# Altium footprint library PcbLib1.PcbLib: 4 footprints
Each footprint in its own frame and in the unit in brackets; x right, y up, seen from the top. Pads: shape width x height; smd on the part's side, far side on the other; paste and mask are expansions set on the pad; w line width, h text height; cw(c..) or ccw(c..) is an arc to the next point about the centre after c.
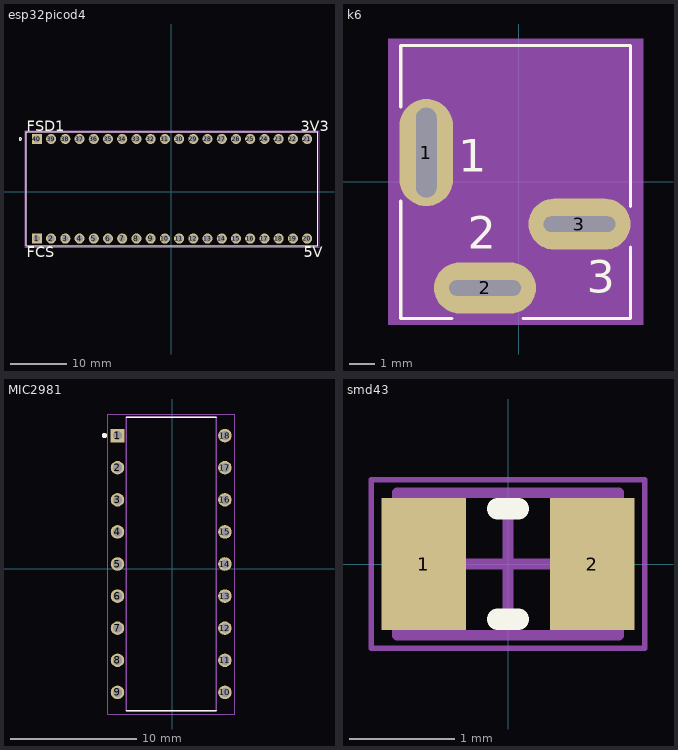
[diagram p0: the footprints below, top view; thin cyan lines are the x and y axes]

## esp32picod4 [mm]
pads (40):
  rect 1.8x1.8 hole 1.2: 1(-24.003,-8.382) 40(-24.003,9.398)
  round 1.8 hole 1.2: 2(-21.463,-8.382) 3(-18.923,-8.382) 4(-16.383,-8.382) 5(-13.843,-8.382) 6(-11.303,-8.382) 7(-8.763,-8.382) 8(-6.223,-8.382) 9(-3.683,-8.382) 10(-1.143,-8.382) 11(1.397,-8.382) 12(3.937,-8.382) 13(6.477,-8.382) 14(9.017,-8.382) 15(11.557,-8.382) 16(14.097,-8.382) 17(16.637,-8.382) 18(19.177,-8.382) 19(21.717,-8.382) 20(24.257,-8.382) 21(24.257,9.398) 22(21.717,9.398) 23(19.177,9.398) 24(16.637,9.398) 25(14.097,9.398) 26(11.557,9.398) 27(9.017,9.398) 28(6.477,9.398) 29(3.937,9.398) 30(1.397,9.398) 31(-1.143,9.398) 32(-3.683,9.398) 33(-6.223,9.398) 34(-8.763,9.398) 35(-11.303,9.398) 36(-13.843,9.398) 37(-16.383,9.398) 38(-18.923,9.398) 39(-21.463,9.398)
Top Overlay:
  circle w0.2: c-26.973,9.408 r0.224
  lines w0.127: -25.873,-9.642 26.127,-9.642 26.127,10.658 -25.873,10.658 -25.873,-9.642
  text "FCS" at -25.813,-11.695 h1.88
  text "5V" at 23.633,-11.686 h1.88
  text "FSD1" at -25.795,10.763 h1.88
  text "3V3" at 23.127,10.764 h1.88
Mechanical 4:
  lines w0.127: -25.873,-9.642 26.127,-9.642 ; -25.873,-9.642 -25.873,10.658 ; -25.873,-9.642 26.127,-9.642 ; -25.873,-9.642 -25.873,10.658 ; -25.873,10.658 26.127,10.658 ; -25.873,10.658 26.127,10.658 ; 26.127,-9.642 26.127,10.658 ; 26.127,-9.642 26.127,10.658
Mechanical 16:
  lines w0.05: -26.123,-9.892 26.377,-9.892 26.377,10.908 -26.123,10.908 -26.123,-9.892

## k6 [mm]
pads (3):
  oval 2.1x4.2 hole 0.8 slot 3.52 at 90 deg: 1(-3.627,1.143)
  oval 4x2 hole 0.6 slot 2.82 at 0 deg: 2(-1.327,-4.157) 3(2.373,-1.657)
Top Overlay:
  lines w0.127: -4.627,-0.757 -4.627,-5.357 -2.627,-5.357 ; -4.627,2.943 -4.627,5.343 4.373,5.343 4.373,-0.957 ; 0.173,-5.357 4.373,-5.357 4.373,-2.557
  text "2" at -1.997,-2.627 h1.27
  text "3" at 2.653,-4.347 h1.27
  text "1" at -2.377,0.403 h1.27
Mechanical 13:
  lines w0.127: -4.627,5.343 -4.627,-5.357 4.373,-5.357 4.373,5.343
Mechanical 15:
  region: 4.873,-5.607 -5.127,-5.607 -5.127,5.593 4.873,5.593

## MIC2981 [mm]
pads (18):
  rect 1.07x1.07 hole 0.72: 1(-4.318,10.541)
  round 1.07 hole 0.72: 2(-4.318,8.001) 3(-4.318,5.461) 4(-4.318,2.921) 5(-4.318,0.381) 6(-4.318,-2.159) 7(-4.318,-4.699) 8(-4.318,-7.239) 9(-4.318,-9.779) 10(4.182,-9.779) 11(4.182,-7.239) 12(4.182,-4.699) 13(4.182,-2.159) 14(4.182,0.381) 15(4.182,2.921) 16(4.182,5.461) 17(4.182,8.001) 18(4.182,10.541)
Top Overlay:
  circle w0.2: c-5.353,10.541 r0.1
  lines w0.127: -3.618,-11.239 3.482,-11.239 ; -3.618,12.001 3.482,12.001
Mechanical 4:
  circle w0.2: c-5.353,10.541 r0.1
  circle w0.2: c-5.353,10.541 r0.1
  lines w0.127: -3.618,-11.239 -3.618,12.001 ; -3.618,-11.239 3.482,-11.239 ; -3.618,-11.239 -3.618,12.001 ; -3.618,-11.239 3.482,-11.239 ; -3.618,12.001 3.482,12.001 ; -3.618,12.001 3.482,12.001 ; 3.482,-11.239 3.482,12.001 ; 3.482,-11.239 3.482,12.001
Mechanical 16:
  lines w0.05: -5.103,-11.489 -5.103,12.251 4.967,12.251 4.967,-11.489 -5.103,-11.489

## smd43 [mm]
pads (2):
  rect 0.8x1.25 smd: 1(-0.8,0) 2(0.8,0)
Top Overlay:
  lines w0.2: -0.1,-0.525 0.1,-0.525 ; -0.1,0.525 0.1,0.525
Mechanical 13:
  lines w0.1: -1.05,-0.675 1.05,-0.675 1.05,0.675 -1.05,0.675 -1.05,-0.675
Mechanical 15:
  lines w0.05: -1.3,-0.8 1.3,-0.8 1.3,0.8 -1.3,0.8 -1.3,-0.8
  lines w0.1: -0.5,0 0.5,0 ; 0,-0.5 0,0.5
3D body: height 0.6, standoff 0, extent 0.7,-0.675 1.05,0.675
3D body: height 0.6, standoff 0, extent -1.05,-0.675 -0.7,0.675
3D body: height 0.6, standoff 0, extent -0.7,-0.675 0.7,0.675